# EAGLE library part PIN_HEADER_MALE_L_1X06_06P (library 180118 Library by matsu)
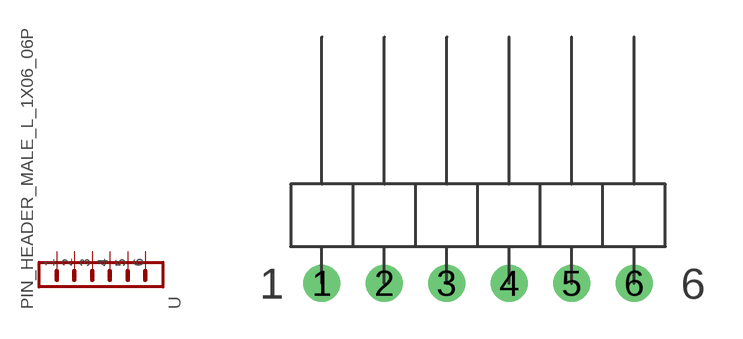
[diagram p21: symbol with the pads of PIN_HEADER_MALE_L_1X06_06P; footprint PIN_HEADER_MALE_L_1X06_06P]

Designator prefix -

## PIN_HEADER_MALE_L_1X06_06P  [PIN_HEADER_MALE_L_1X06_06P]
1  1
2  2
3  3
4  4
5  5
6  6

## Footprint PIN_HEADER_MALE_L_1X06_06P (pad centres in mm)
drill 1: 1 -6.35,0; 2 -3.81,0; 3 -1.27,0; 4 1.27,0; 5 3.81,0; 6 6.35,0